# Altium schematic symbol library Schlib1.SchLib: 42 symbols (part 2 of 2)
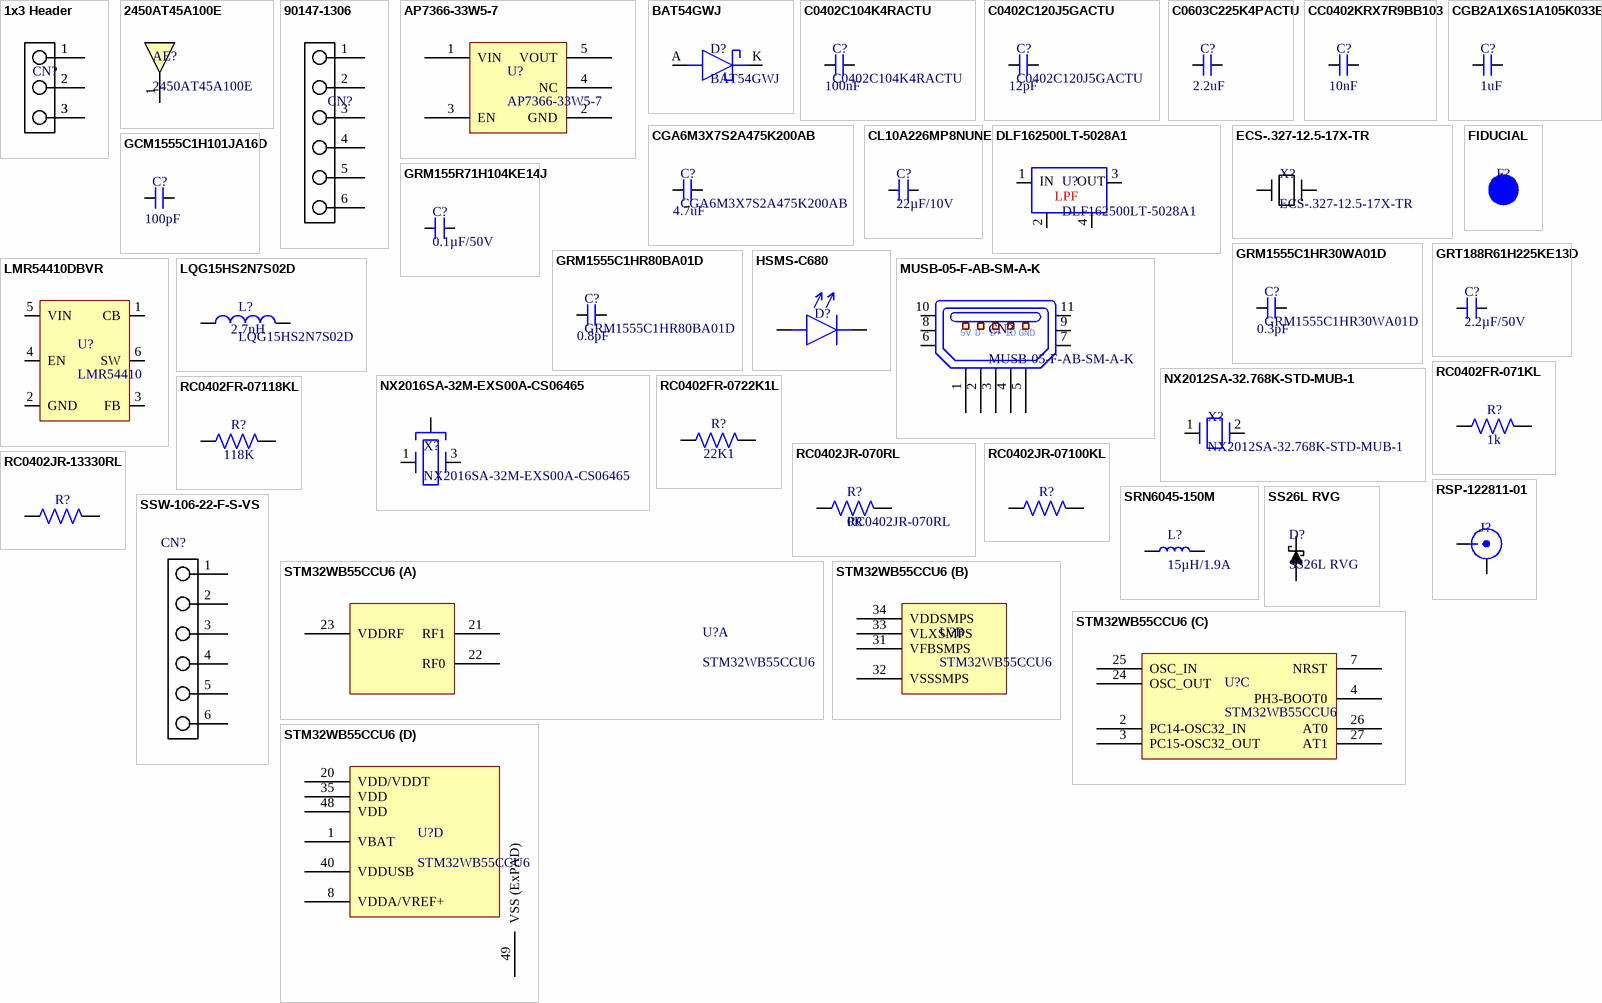
[diagram p2: symbols 1x3 Header to STM32WB55CCU6]

## RC0402JR-07100KL
designator R?  (value not drawn)
SMD Chip Resistor, 100 Kohm, ½ 5%, 62.5 Mw, 0402 [1005 Metric], Thick Film, General Purpose; Manufacturer: Yageo; Voltage Rating: 50V; Power Rating: 62.5mW; Temperature Coefficient: 100ppm/°C; Max Power Dissipation: 63mW; Value: 100kR; Supplier: Future Electronics; Supplier Part Number: 4246625; Manufacturer Part Number: RC0402JR-07100KL; RoHS: Yes; Category: Chip SMD Resistors; Stock: 7850000; Pricing: 10000=0,0006, 50000=0,0006, 250000=0,0005, 500000=0,0005, 1500000=0,0005 (USD); Case/Package: 0402; Case Code (Metric): 1005; Case Code (Imperial): 0402; Min Operating Temperature: -55°C; Max Operating Temperature: 155°C; Packaging: Tape and Reel; Termination: SMD/SMT; Voltage Rating (AC): 50V; Tolerance: 5%; Resistor Type: Thick Film; Number of Terminations: 2; Features: Moisture Resistant; Series: RC; Resistance Tolerance: 5%; Construction: Rectangular; Length: 1mm; Depth: 0.5mm; Lead Free: Lead Free; Reach SVHC Compliant: Unknown; Military Standard: Not; RoHS Compliant: Yes; ComponentLink1URL: https://datasheet.ciiva.com/2491/pyu-r-int-thick-7-2491208.pdf?src-supplier=Digikey; ComponentLink1Description: https://datasheet.ciiva.com/2491/pyu-r-int-thick-7-2491208.pdf?src-supplier=Digikey; ComponentLink2URL: https://datasheet.ciiva.com/2491/pyu-r-int-thick-7-2491209.pdf?src-supplier=Digikey; ComponentLink2Description: https://datasheet.ciiva.com/2491/pyu-r-int-thick-7-2491209.pdf?src-supplier=Digikey; ComponentLink3URL: https://datasheet.ciiva.com/2491/pyu-r-int-thick-7-2491207.pdf?src-supplier=Digikey; ComponentLink3Description: https://datasheet.ciiva.com/2491/pyu-r-int-thick-7-2491207.pdf?src-supplier=Digikey; ComponentLink4URL: https://datasheet.ciiva.com/17052/pyu-rc0402-51-rohs-l-6-r-17052137.pdf?src-supplier=Future+Electronics; ComponentLink4Description: https://datasheet.ciiva.com/17052/pyu-rc0402-51-rohs-l-6-r-17052137.pdf?src-supplier=Future+Electronics; ComponentLink5URL: https://datasheet.ciiva.com/46394/1018594-46394941.pdf?src-supplier=Element14; ComponentLink5Description: https://datasheet.ciiva.com/46394/1018594-46394941.pdf?src-supplier=Element14; ComponentLink6URL: https://datasheet.ciiva.com/7850/1018594-7850133.pdf?src-supplier=Element14; ComponentLink6Description: https://datasheet.ciiva.com/7850/1018594-7850133.pdf?src-supplier=Element14; ComponentLink7URL: https://datasheet.ciiva.com/12668/pyu-rc0402-51-rohs-l-6-r-12668218.pdf?src-supplier=Mouser; ComponentLink7Description: https://datasheet.ciiva.com/12668/pyu-rc0402-51-rohs-l-6-r-12668218.pdf?src-supplier=Mouser
footprint R0402
pins: 1, 2

## RC0402JR-13330RL
designator R?  (value not drawn)
Res Thick Film 0402 330 Ohm 5% 1/16W ±100ppm/°C Molded SMD SMD Paper T/R; Manufacturer: Yageo; Value: 330R; Power Rating: 63mW; Supplier: Digikey; Supplier Part Number: 13-RC0402JR-13330RLCT-ND; Manufacturer Part Number: RC0402JR-13330RL; RoHS: Yes; Category: Chip SMD Resistors; Stock: 107022; Pricing: 1=0,1, 10=0,006, 50=0,0056, 100=0,0051, 500=0,0046, 1000=0,00306, 5000=0,00246 (USD); Case/Package: 0402; Contact Plating: Tin,Matte; Min Operating Temperature: -55°C; Max Operating Temperature: 155°C; Tolerance: 5%; Temperature Coefficient: 100ppm/°C; Packaging: Tape and Reel; Construction: Rectangular; Length: 1mm; Depth: 0.5mm; Military Standard: Not; Lead Free: Lead Free; RoHS Compliant: Yes; ComponentLink1URL: https://datasheet.ciiva.com/17423/pyu-rc0402-51-rohs-l-6-r-17423686.pdf?src-supplier=Future+Electronics; ComponentLink1Description: https://datasheet.ciiva.com/17423/pyu-rc0402-51-rohs-l-6-r-17423686.pdf?src-supplier=Future+Electronics
footprint R0402
pins: 1, 2

## RSP-122811-01
designator J?  (value not drawn)
RF MHF Connector, 1 Contact(s), Male, Board Mount, Surface Mount Terminal, Receptacle; Manufacturer: Samtec; Body Material: Bronze; Dielectric Material: Polymer; Impedance: 50R; Gender: Female; Connector Type: Receptacle,Male Pin; Operating Frequency: 0 to 6 GHz; Clock Frequency: 6GHz; Number of Ports: 1; Number of Contacts: 1NUMBER; Voltage Rating: 60V; Supplier: Digikey; Supplier Part Number: 612-RSP-122811-01CT-ND; Manufacturer Part Number: RSP-122811-01; RoHS: Yes; Category: RF / Coaxial Connectors; Stock: 8691; Pricing: 1=1,1, 10=0,936, 25=0,8772, 50=0,8352, 100=0,7952, 250=0,7454, 500=0,70978, 1000=0,67589, 2500=0,6426 (USD); Mounting Technology: Surface Mount; Case/Package: SMD/SMT; Contact Material: Bronze; Min Operating Temperature: -40°C; Max Operating Temperature: 90°C; Packaging: Strip; Termination: Solder; Orientation: Straight; Fastening Type: SNAP-ON; Series: -; Length: 3.1mm; Depth: 3mm; Radiation Hardening: No; RoHS Compliant: Yes; ComponentLink1URL: https://media.digikey.com/pdf/Data%20Sheets/Samtec/RSP-122811-01_dwg.pdf?src-supplier=Digikey; ComponentLink1Description: https://media.digikey.com/pdf/Data%20Sheets/Samtec/RSP-122811-01_dwg.pdf?src-supplier=Digikey; ComponentLink2URL: http://components.arrow.com/part/dataview/44251978S9204898N1004?src-supplier=Arrow+Electronics; ComponentLink2Description: http://components.arrow.com/part/dataview/44251978S9204898N1004?src-supplier=Arrow+Electronics; ComponentLink3URL: http://www.samtec.com/documents/webfiles/CPDF/rsp-122811-02.pdf?src-supplier=Avnet; ComponentLink3Description: http://www.samtec.com/documents/webfiles/CPDF/rsp-122811-02.pdf?src-supplier=Avnet
footprint U.FL-R-SMT-1(10)
pins: 1, 2, 3

## SRN6045-150M
designator L?, comment 15µH/1.9A
IND - 15µH Semi-Shielded 1.9 A 95.8mOhm; Manufacturer 1: Bourns; Manufacturer Part Number 1: SRN6045-150M; Core Material: Ferrite; Inductance Tolerance: 20%; Current Rating: 1.9A; Saturation Current: 2.3A; Value: 15uH; DC Resistance (DCR): 95.8mR; Self Resonant Frequency: 13MHz; Test Frequency: 100kHz; .SCHChecked: Alex Batista; .Mouting: SMT; Supplier: Digi-Key; Supplier Part Number: SRN6045-150MCT-ND; RoHS: Yes; Category: Fixed Inductors; Stock: 65513; Pricing: 1=0.57, 10=0.499, 25=0.464, 50=0.3924, 100=0.3568, 250=0.33536, 500=0.2997 (USD); Mounting Technology: Surface Mount; Case/Package: Nonstandard; Pins: 2; Weight: 0.027725oz; Min Operating Temperature: -40°C; Max Operating Temperature: 125°C; Tolerance: 20%; Packaging: Tape and Reel; Shielding: Shielded; Package Quantity: 1000; Max DC Current: 1.9A; Termination: SMD/SMT; RMS Current (Irms): 1.9A; Series: SRN6045; Length: 6mm; Width: 6mm; Height: 4.5mm; Height - Seated (Max): 0.177inch; Depth: 6mm; Reach SVHC Compliant: No; RoHS Compliant: Yes; ComponentLink1URL: https://datasheet.ciiva.com/5986/1705518-5986195.pdf?src-supplier=Farnell; ComponentLink1Description: https://datasheet.ciiva.com/5986/1705518-5986195.pdf?src-supplier=Farnell; ComponentLink2URL: https://datasheet.ciiva.com/11802/0900766b80fe1f3e-11802573.pdf?src-supplier=Rs; ComponentLink2Description: https://datasheet.ciiva.com/11802/0900766b80fe1f3e-11802573.pdf?src-supplier=Rs; ComponentLink3URL: https://datasheet.ciiva.com/4954/srn6045-70649-4954231.pdf?src-supplier=Mouser; ComponentLink3Description: https://datasheet.ciiva.com/4954/srn6045-70649-4954231.pdf?src-supplier=Mouser; ComponentLink4URL: https://datasheet.ciiva.com/8512/srn6045-8512989.pdf?src-supplier=Avnet; ComponentLink4Description: https://datasheet.ciiva.com/8512/srn6045-8512989.pdf?src-supplier=Avnet; ComponentLink5URL: https://datasheet.ciiva.com/1056/srn6045-1056106.pdf?src-supplier=Digi-Key; ComponentLink5Description: https://datasheet.ciiva.com/1056/srn6045-1056106.pdf?src-supplier=Digi-Key; ComponentLink6URL: https://datasheet.ciiva.com/1056/srn6045-1056107.pdf?src-supplier=Digi-Key; ComponentLink6Description: https://datasheet.ciiva.com/1056/srn6045-1056107.pdf?src-supplier=Digi-Key; ComponentLink7URL: https://datasheet.ciiva.com/1056/srn6045-1056108.pdf?src-supplier=Digi-Key; ComponentLink7Description: https://datasheet.ciiva.com/1056/srn6045-1056108.pdf?src-supplier=Digi-Key; ComponentLink8URL: https://datasheet.ciiva.com/17113/70231653-17113165.pdf?src-supplier=Allied+Electronics; ComponentLink8Description: https://datasheet.ciiva.com/17113/70231653-17113165.pdf?src-supplier=Allied+Electronics; .PCBChecked: Alex Batista; Manufacturer: Bourns; Manufacturer Part Number: SRN6045-150M
footprint SRN6045-150M
pins: 1, 2

## SS26L RVG
designator D?
DIODE - Schottky 60V 2A 2-Pin Sub SMA T/R; Manufacturer 1: Taiwan Semiconductor; .SCHChecked: Alex Batista; .Mouting: SMT; Supplier: Digi-Key; Supplier Part Number: SS26LRVGCT-ND; Manufacturer Part Number 1: SS26L RVG; RoHS: Yes; Stock: 38; Pricing: 1=0.66, 10=0.578 (USD); RoHS Compliant: Yes; .PCBChecked: Alex Batista; Manufacturer: Taiwan Semiconductor; Manufacturer Part Number: SS26L RVG
footprint SS26LRVG
pins: 1 Cathode, 2 Anode

## SSW-106-22-F-S-VS
designator CN?  (value not drawn)
Conn Socket Strip SKT 6 POS 2.54mm Solder ST SMD Tube; Manufacturer: Samtec; Number of Contacts: 6; Gender: Female; Mating Cycles: 100; Max Current Rating: 3A; Contact Resistance: 10mR; Supplier 1: Mouser; Manufacturer Part Number: SSW-106-22-F-S-VS; Stock 1: 0; Pricing 1: 1=1.41, 10=1.18, 50=1.18, 100=0.872, 250=0.785, 500=0.698, 1000=0.633, 2500=0.611, 5000=0.556, 10000=0.545 (USD); Contact Plating: Gold; Contact Material: Bronze; Color: Black; Housing Color: Black; Housing Material: Polymer; Min Operating Temperature: -55°C; Max Operating Temperature: 125°C; Number of Rows: 1; Termination: Solder; Packaging: Bulk; Orientation: Straight; Length: 15.75mm; Pitch: 2.54mm; Depth: 2.41mm; Radiation Hardening: No; Supplier Part Number 1: 200-SSW10622FSVS; ComponentLink1Description: Mouser Page; ComponentLink1URL: https://br.mouser.com/ProductDetail/Samtec/SSW-106-22-F-S-VS?qs=sGAEpiMZZMvffgRu4KC1RxM6nKwEP14AemsEUlRUVAFQwg4ur6pCqw%3D%3D; ComponentLink2Description: Datasheet; ComponentLink2URL: https://br.mouser.com/datasheet/2/527/ssw_sm-1370305.pdf; ComponentLink3Description: Samtec Page; ComponentLink3URL: https://www.samtec.com/products/ssw-106-22-f-s-vs; Category: Connectors
footprint SSW-106-22-F-S-VS-K-TR
pins: 1, 2, 3, 4, 5, 6

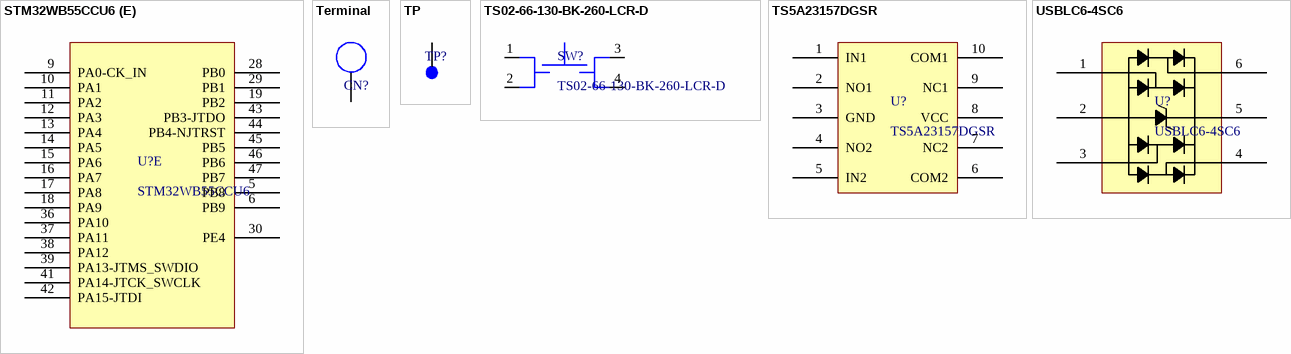
[diagram p1: symbols STM32WB55CCU6 to USBLC6-4SC6]

## STM32WB55CCU6
designator U?
MCU 32-Bit STM32WB55 ARM Cortex-M4F RISC 256KB Flash 1.71V to 3.6V 48-Pin UFQFPN T/R; Manufacturer: STMicroelectronics; Interface: I2C,SPI,USB,UART,USART; Frequency: 2.48GHz; Data Rate: 2Mbps; Sensitivity: -100dBm; Current - Receiving: 7.9mA; Current - Transmitting: 12.7mA; Number of GPIO: 30; Supplier: Digikey; Supplier Part Number: 497-STM32WB55CCU6-ND; RoHS: Yes; Category: Microcontrollers; Stock: 2269; Pricing: 1=5,19, 10=3,989, 25=3,6896, 80=3,41638 (USD); Mounting Technology: Surface Mount; Case/Package: UFQFPN; Min Operating Temperature: -40°C; Max Operating Temperature: 105°C; Series: -; Memory Size: 256KB; ComponentLink1URL: https://www.st.com/resource/en/datasheet/stm32wb55cc.pdf?src-supplier=Digikey; ComponentLink1Description: https://www.st.com/resource/en/datasheet/stm32wb55cc.pdf?src-supplier=Digikey; Manufacturer Part Number: STM32WB55CCU6
footprint WB55
part A pins: 21 RF1, 22 RF0, 23 VDDRF
part B pins: 31 VFBSMPS, 32 VSSSMPS, 33 VLXSMPS, 34 VDDSMPS
part C pins: 2 PC14-OSC32_IN, 3 PC15-OSC32_OUT, 4 PH3-BOOT0, 7 NRST, 24 OSC_OUT, 25 OSC_IN, 26 AT0, 27 AT1
part D pins: 1 VBAT, 8 VDDA/VREF+, 20 VDD/VDDT, 35 VDD, 40 VDDUSB, 48 VDD, 49 VSS (ExPAD)
part E pins: 5 PB8, 6 PB9, 9 PA0-CK_IN, 10 PA1, 11 PA2, 12 PA3, 13 PA4, 14 PA5, 15 PA6, 16 PA7, 17 PA8, 18 PA9, 19 PB2, 28 PB0, 29 PB1, 30 PE4, 36 PA10, 37 PA11, 38 PA12, 39 PA13-JTMS_SWDIO, 41 PA14-JTCK_SWCLK, 42 PA15-JTDI, 43 PB3-JTDO, 44 PB4-NJTRST, 45 PB5, 46 PB6, 47 PB7

## Terminal
designator CN?  (value not drawn)  (no BOM)
footprint 2.5mmHOLE
pins: 1, 1

## TP
designator TP?  (value not drawn)  (no BOM)
Test Point
footprint TP
pins: 1, 1, 1, 1

## TS02-66-130-BK-260-LCR-D
designator SW?
Manufacturer: Same Sky; Category: Tactile Switches; Manufacturer Part Number: TS02-66-130-BK-260-LCR-D
footprint BUTTON
pins: 1, 2, 3, 4

## TS5A23157DGSR
designator U?
Integrated Circuit Analog Switch; 5-V, 2: 1 (SPDT), 2-channel analog switch 10-VSSOP -40 to 125; Manufacturer: Texas Instruments; Max Supply Voltage: 5.5V; Min Supply Voltage: 1.8V; Number of Channels: 2; Bandwidth: 220MHz; Max Supply Current: 1uA; Supply Type: Single; Number of Outputs: 4; Supplier: Mouser; Supplier Part Number: 595-TS5A23157DGSR; Manufacturer Part Number: TS5A23157DGSR; RoHS: Yes; Category: Interface ICs; Stock: 25483; Pricing: 1=0,43, 10=0,297, 50=0,266, 100=0,23, 1000=0,194, 10000=0,177 (USD); Mounting Technology: Surface Mount; Case/Package: VSSOP; Pins: 10; Weight: 0.000663oz; Min Operating Temperature: -40°C; Max Operating Temperature: 85°C; Packaging: Tape and Reel; Series: -; Number of Inputs: 2; Number of Circuits: 2; -3db Bandwidth: 220MHz; Number of Bits: 2; Thickness: 1.02mm; Radiation Hardening: No; Lead Free: Lead Free; RoHS Compliant: Yes; Reach SVHC Compliant: Unknown; ComponentLink1URL: https://datasheet.ciiva.com/1670/ts5a23157-1670544.pdf?src-supplier=Digikey; ComponentLink1Description: https://datasheet.ciiva.com/1670/ts5a23157-1670544.pdf?src-supplier=Digikey; ComponentLink2URL: https://datasheet.ciiva.com/2978/ts5a23157-2978976.pdf?src-supplier=Avnet; ComponentLink2Description: https://datasheet.ciiva.com/2978/ts5a23157-2978976.pdf?src-supplier=Avnet; ComponentLink3URL: https://datasheet.ciiva.com/15127/getdatasheetpartid-249170-15127550.pdf?src-supplier=Verical; ComponentLink3Description: https://datasheet.ciiva.com/15127/getdatasheetpartid-249170-15127550.pdf?src-supplier=Verical; ComponentLink4URL: https://datasheet.ciiva.com/1670/ts5a23157-1670545.pdf?src-supplier=Digikey; ComponentLink4Description: https://datasheet.ciiva.com/1670/ts5a23157-1670545.pdf?src-supplier=Digikey; ComponentLink5URL: https://datasheet.ciiva.com/1670/ts5a23157-1670616.pdf?src-supplier=Digikey; ComponentLink5Description: https://datasheet.ciiva.com/1670/ts5a23157-1670616.pdf?src-supplier=Digikey; ComponentLink6URL: https://datasheet.ciiva.com/1514/1836502-1514585.pdf?src-supplier=Element14; ComponentLink6Description: https://datasheet.ciiva.com/1514/1836502-1514585.pdf?src-supplier=Element14; ComponentLink7URL: https://datasheet.ciiva.com/41675/1836502-41675240.pdf?src-supplier=Newark; ComponentLink7Description: https://datasheet.ciiva.com/41675/1836502-41675240.pdf?src-supplier=Newark
footprint VSSOP10
pins: 1 IN1, 2 NO1, 3 GND, 4 NO2, 5 IN2, 6 COM2, 7 NC2, 8 VCC, 9 NC1, 10 COM1

## USBLC6-4SC6
designator U?
USBLC6 Series 4 Line 6 V Uni / Bi-Directional ESD Protection - SOT-23-6; Manufacturer: STMicroelectronics; Value: 4pF; Direction: Unidirectional; Number of Channels: 4; Reverse Standoff Voltage: 5V; Min Breakdown Voltage: 6V; Power Line Protection: Yes; Peak Pulse Current: 5A; Number of Elements: 1; Operating Supply Voltage: 860mV; Clamping Voltage: 17V; Polarity: Unidirectional,Bidirectional; Leakage Current: 150nA; Test Current: 1mA; Max Breakdown Voltage: 10V; Max Reverse Leakage Current: 2uA; Interface: 224,1515Interface; Peak Pulse Power: 130W; Supplier: Future Electronics; Supplier Part Number: 5949821; Manufacturer Part Number: USBLC6-4SC6; RoHS: Yes; Category: TVS Diodes; Stock: 1416000; Pricing: 3000=0,0692, 9000=0,0666, 15000=0,0654, 30000=0,0638, 60000=0,0614 (USD); Mounting Technology: Surface Mount; Case/Package: SOT-23; Pins: 6; Min Operating Temperature: -40°C; Max Operating Temperature: 125°C; Packaging: Tape and Reel; Breakdown Voltage: 6V; Series: USB; Reverse Breakdown Voltage: 6V; Termination: SMD/SMT; Working Voltage: 5V; ESD Protection: Yes; Voltage Rating (DC): 5V; Clamping Voltage-Max: 17V; Number of Unidirectional Channels: 4; Length: 3.05mm; Width: 1.75mm; Height: 1.3mm; Depth: 1.75mm; Radiation Hardening: No; Reach SVHC Compliant: No; Lead Free: Lead Free; RoHS Compliant: Yes; ComponentLink1URL: https://datasheet.ciiva.com/16206/cd00047494-16206119.pdf?src-supplier=Future+Electronics; ComponentLink1Description: https://datasheet.ciiva.com/16206/cd00047494-16206119.pdf?src-supplier=Future+Electronics; ComponentLink2URL: https://datasheet.ciiva.com/15143/getdatasheetpartid-88767-15143364.pdf?src-supplier=Verical; ComponentLink2Description: https://datasheet.ciiva.com/15143/getdatasheetpartid-88767-15143364.pdf?src-supplier=Verical; ComponentLink3URL: https://datasheet.ciiva.com/27052/1493951-27052291.pdf?src-supplier=Jameco; ComponentLink3Description: https://datasheet.ciiva.com/27052/1493951-27052291.pdf?src-supplier=Jameco; ComponentLink4URL: https://datasheet.ciiva.com/14186/usblc6-4-st-eng-tds-14186570.pdf?src-supplier=Distrelec; ComponentLink4Description: https://datasheet.ciiva.com/14186/usblc6-4-st-eng-tds-14186570.pdf?src-supplier=Distrelec; ComponentLink5URL: https://datasheet.ciiva.com/1220/48344-1220005.pdf?src-supplier=Newark; ComponentLink5Description: https://datasheet.ciiva.com/1220/48344-1220005.pdf?src-supplier=Newark; ComponentLink6URL: https://datasheet.ciiva.com/4507/cd00047494-112581-4507757.pdf?src-supplier=Mouser; ComponentLink6Description: https://datasheet.ciiva.com/4507/cd00047494-112581-4507757.pdf?src-supplier=Mouser; ComponentLink7URL: https://datasheet.ciiva.com/22685/1498406-22685833.pdf?src-supplier=Element14; ComponentLink7Description: https://datasheet.ciiva.com/22685/1498406-22685833.pdf?src-supplier=Element14; ComponentLink8URL: https://datasheet.ciiva.com/22692/1498406-22692454.pdf?src-supplier=Element14; ComponentLink8Description: https://datasheet.ciiva.com/22692/1498406-22692454.pdf?src-supplier=Element14
footprint SOT23-6
pins: 1, 2 GND, 3, 4, 5, 6